# EAGLE library part MMA7455L (library freescale)
LGA LGA14 MMA7455L
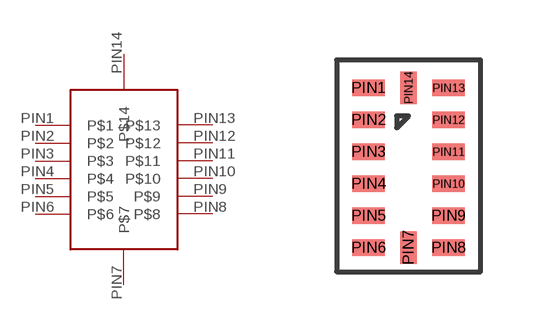
[diagram p0: symbol with the pads of LGA14; footprint LGA14]

Designator prefix -

## MMA7455L  [LGA14]
PIN1  P$1
PIN2  P$2
PIN3  P$3
PIN4  P$4
PIN5  P$5
PIN6  P$6
PIN7  P$7
PIN8  P$8
PIN9  P$9
PIN10  P$10
PIN11  P$11
PIN12  P$12
PIN13  P$13
PIN14  P$14

## Footprint LGA14 (pad centres in mm)
LGA 14 LGA14
smd 0.813 x 0.406: PIN1 1,5; PIN2 1,4.2; PIN3 1,3.4; PIN4 1,2.6; PIN5 1,1.8; PIN6 1,1; PIN8 3,1; PIN9 3,1.8; PIN10 3,2.6; PIN11 3,3.4; PIN12 3,4.2; PIN13 3,5
smd 0.406 x 0.813: PIN7 2,1; PIN14 2,5